# Altium schematic symbol library IC_TI_HD3SS460RHRR.SchLib: 1 symbol
Pins are listed as number, name and electrical type; pins without a type are passive.

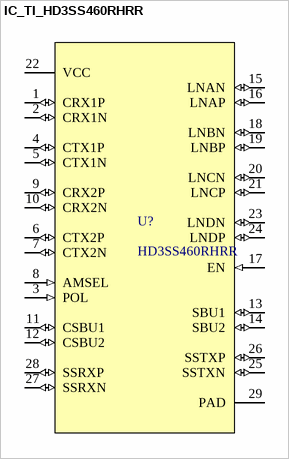
[diagram p0: symbol IC_TI_HD3SS460RHRR]

## IC_TI_HD3SS460RHRR
designator U?, comment HD3SS460RHRR
4x6-channel USB Type-C&trade; Alternate Mode mux/demux 28-WQFN 0 to 70; Manufacturer_Name: Texas Instruments; Alternate_PartNumber: HD3SS460RHRT; CompType: IC; TYPE: TYPE; RefDes: RefDes; Copyright: Copyright (C) 2026 Ultra Librarian. All rights reserved.; Manufacturer_Part_Number: HD3SS460RHRR; Datasheet: https://www.ti.com/lit/gpn/hd3ss460; Application_BuildNumber: *; PartNumber: HD3SS460RHRR; PackageReference: RHR0028A; MountType: SMT; RoHS: Y; Manufacturer: Texas Instruments
footprint IC_HD3SS460RHRR
pins: 1 CRX1P (io), 2 CRX1N (io), 3 POL (in), 4 CTX1P (io), 5 CTX1N (io), 6 CTX2P (io), 7 CTX2N (io), 8 AMSEL (in), 9 CRX2P (io), 10 CRX2N (io), 11 CSBU1 (io), 12 CSBU2 (io), 13 SBU1 (io), 14 SBU2 (io), 15 LNAN (io), 16 LNAP (io), 17 EN (in), 18 LNBN (io), 19 LNBP (io), 20 LNCN (io), 21 LNCP (io), 22 VCC (power), 23 LNDN (io), 24 LNDP (io), 25 SSTXN (io), 26 SSTXP (io), 27 SSRXN (io), 28 SSRXP (io), 29 PAD (power)